# EAGLE library part TUSB320 (library Cynara-IntegratedCircuits)
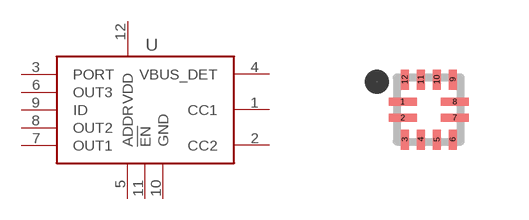
[diagram p7: symbol with the pads of TUSB320; footprint TUSB320]

Designator prefix U

## TUSB320 (MANUFACTURER: Texas Instruments; MANUFACTURERPARTNO: TUSB320IRWBR; ORDERCODE: 2499017; SUPPLIER: Farnell)  [TUSB320]
1  CC1
2  CC2
3  PORT  in
4  VBUS_DET  in
5  ADDR  in
6  OUT3  out
7  OUT1  out
8  OUT2  out
9  ID  out
10  GND  pwr
11  !EN  in
12  VDD  pwr

## Footprint TUSB320 (pad centres in mm)
smd 0.7 x 0.2: 1 -0.65,0.2; 2 -0.65,-0.2; 7 0.65,-0.2; 8 0.65,0.2
smd 0.2 x 0.5: 3 -0.6,-0.75; 4 -0.2,-0.75; 5 0.2,-0.75; 6 0.6,-0.75; 9 0.6,0.75; 10 0.2,0.75; 11 -0.2,0.75; 12 -0.6,0.75